# EAGLE library part MIC2026-1YM-TR (library openag-power-distributors)
IC SW DISTRIBUTION 2CHAN 8SOIC Description: IC CONTROLLER USB 36QFN Technical Specifications: Switch Type: General Purpose Number of Outputs: 2 Ratio - Input:Output: 1:2 Output Configuration: High Side Output Type: N-Channel Interface: On/Off Voltage - Load: 2.7 V ~ 5.5 V Voltage - Supply (Vcc/Vdd): Not Required Current - Output (Max): 500mA Rds On (Typ): 90 mOhm Input Type: Non-Inverting Features: Slew Rate Controlled, Status Flag Fault Protection: Current Limiting (Fixed), Over Temperature, UVLO Operating Temperature: -40°C ~ 85°C (TA) Package / Case: 8-SOIC (0.154", 3.90mm Width) Supplier Device Package: 8-SOIC Base Part Number: MIC2026 Datasheet(s): MIC2026, MIC2076 <http://www.microchip.com/mymicrochip/filehandler.aspx?ddocname=en579448> Vendor(s): Digikey: 576-1059-1-ND <https://www.digikey.com/product-detail/en/microchip-technology/MIC2026-1YM-TR/576-1059-1-ND/771825>
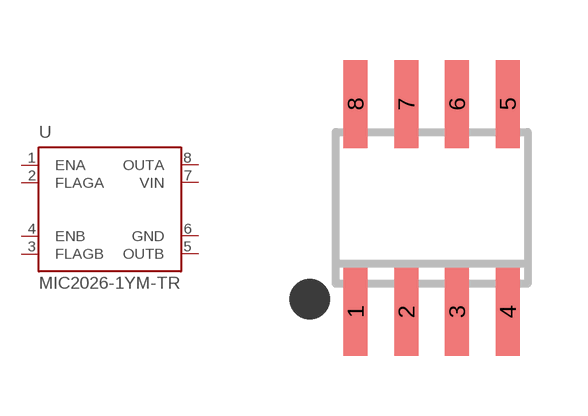
[diagram p0: symbol with the pads of SOIC8; footprint SOIC8]

Designator prefix U

## MIC2026-1YM-TR (MANUFACTURER: Microchip Technology; MPN: MIC2026-1YM-TR; VALUE: MIC2026; VENDOR: Digikey; VLINK: https://www.digikey.com/product-detail/en/microchip-technology/MIC2026-1YM-TR/576-1059-1-ND/771825; VPN: 576-1059-1-ND)  [SOIC8]
1  ENA
2  FLAGA
3  FLAGB
4  ENB
5  OUTB
6  GND
7  VIN
8  OUTA

## Footprint SOIC8 (pad centres in mm)
Small Outline IC
smd 0.6 x 2.2: 1 -1.905,-2.6; 2 -0.635,-2.6; 3 0.635,-2.6; 4 1.905,-2.6; 5 1.905,2.6; 6 0.635,2.6; 7 -0.635,2.6; 8 -1.905,2.6